# Altium integrated library WE-HCI SMD Flat Wire High Current Inductor.IntLib: 110 symbols (part 1 of 2)
Pins are listed as number, name and electrical type; pins without a type are passive.

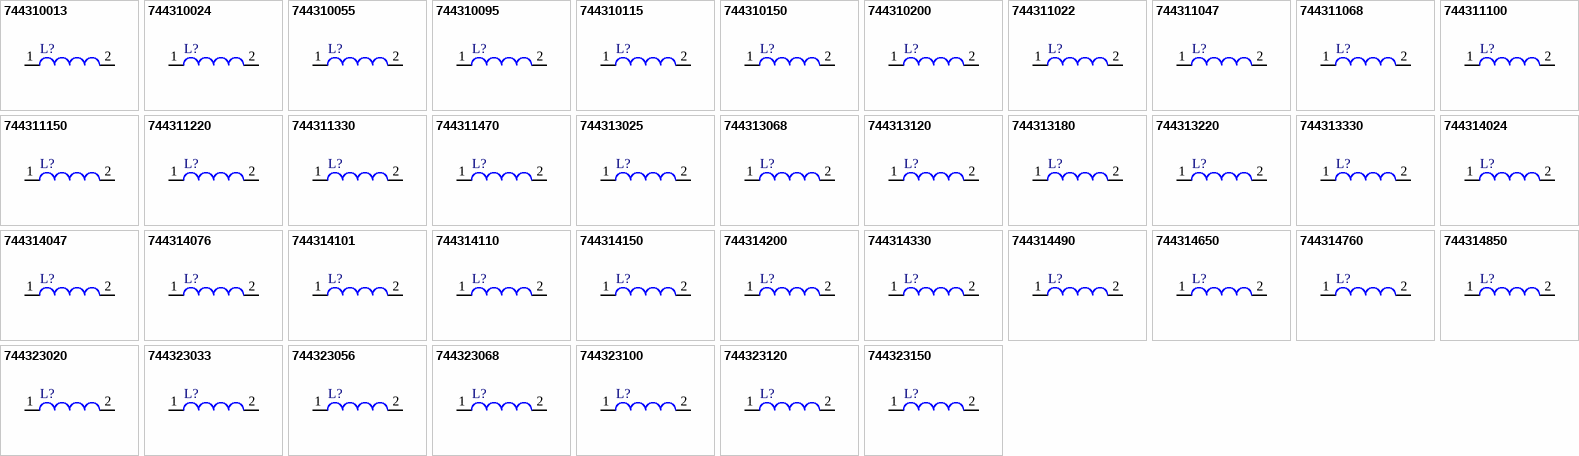
[diagram p0: symbols 744310013 to 744323150]

## 744310013
designator L?
SMD Flat Wire High Current Inductor WE-HCI, L=0.13 µH; PartNumber: 744310013; Inductance: 0.13 µH; DatasheetVersion: ver 4, Jan-2008; PackageReference: WE-HCI-7030; PackageDescription: SMD Inductor, 2-Leads, Body 7.0 x 6.9 mm; ComponentLink1Description: Manufacturer URL; ComponentLink1URL: http://www.we-online.com; ComponentLink2Description: Datasheet; ComponentLink2URL: http://www.we-online.de/katalog/media/pdf/744310013.pdf
footprint WE-HCI-7030 (SMD Inductor, 2-Leads, Body 7.0x6.9x3.3 mm)
pins: 1, 2

## 744310024
designator L?
SMD Flat Wire High Current Inductor WE-HCI, L=0.24 µH; PartNumber: 744310024; Inductance: 0.24 µH; DatasheetVersion: ver 4, Jan-2008; PackageReference: WE-HCI-7030; PackageDescription: SMD Inductor, 2-Leads, Body 7.0 x 6.9 mm; ComponentLink1Description: Manufacturer URL; ComponentLink1URL: http://www.we-online.com; ComponentLink2Description: Datasheet; ComponentLink2URL: http://www.we-online.de/katalog/media/pdf/744310024.pdf
footprint WE-HCI-7030 (SMD Inductor, 2-Leads, Body 7.0x6.9x3.3 mm)
pins: 1, 2

## 744310055
designator L?
SMD Flat Wire High Current Inductor WE-HCI, L=0.52 µH; PartNumber: 744310055; Inductance: 0.52 µH; DatasheetVersion: ver 4, Jan-2008; PackageReference: WE-HCI-7030; PackageDescription: SMD Inductor, 2-Leads, Body 7.0 x 6.9 mm; ComponentLink1Description: Manufacturer URL; ComponentLink1URL: http://www.we-online.com; ComponentLink2Description: Datasheet; ComponentLink2URL: http://www.we-online.de/katalog/media/pdf/744310055.pdf
footprint WE-HCI-7030 (SMD Inductor, 2-Leads, Body 7.0x6.9x3.3 mm)
pins: 1, 2

## 744310095
designator L?
SMD Flat Wire High Current Inductor WE-HCI, L=0.95 µH; PartNumber: 744310095; Inductance: 0.95 µH; DatasheetVersion: ver 4, Jan-2008; PackageReference: WE-HCI-7030; PackageDescription: SMD Inductor, 2-Leads, Body 7.0 x 6.9 mm; ComponentLink1Description: Manufacturer URL; ComponentLink1URL: http://www.we-online.com; ComponentLink2Description: Datasheet; ComponentLink2URL: http://www.we-online.de/katalog/media/pdf/744310095.pdf
footprint WE-HCI-7030 (SMD Inductor, 2-Leads, Body 7.0x6.9x3.3 mm)
pins: 1, 2

## 744310115
designator L?
SMD Flat Wire High Current Inductor WE-HCI, L=1.15 µH; PartNumber: 744310115; Inductance: 1.15 µH; DatasheetVersion: ver 4, Jan-2008; PackageReference: WE-HCI-7030; PackageDescription: SMD Inductor, 2-Leads, Body 7.0 x 6.9 mm; ComponentLink1Description: Manufacturer URL; ComponentLink1URL: http://www.we-online.com; ComponentLink2Description: Datasheet; ComponentLink2URL: http://www.we-online.de/katalog/media/pdf/744310115.pdf
footprint WE-HCI-7030 (SMD Inductor, 2-Leads, Body 7.0x6.9x3.3 mm)
pins: 1, 2

## 744310150
designator L?
SMD Flat Wire High Current Inductor WE-HCI, L=1.50 µH; PartNumber: 744310150; Inductance: 1.50 µH; DatasheetVersion: ver 1, Mar-2010; PackageReference: WE-HCI-7030; PackageDescription: SMD Inductor, 2-Leads, Body 7.0 x 6.9 mm; ComponentLink1Description: Manufacturer URL; ComponentLink1URL: http://www.we-online.com; ComponentLink2Description: Datasheet; ComponentLink2URL: http://www.we-online.de/katalog/media/pdf/744310150.pdf
footprint WE-HCI-7030 (SMD Inductor, 2-Leads, Body 7.0x6.9x3.3 mm)
pins: 1, 2

## 744310200
designator L?
SMD Flat Wire High Current Inductor WE-HCI, L=2.00 µH; PartNumber: 744310200; Inductance: 2.00 µH; DatasheetVersion: ver 4, Jan-2008; PackageReference: WE-HCI-7030; PackageDescription: SMD Inductor, 2-Leads, Body 7.0 x 6.9 mm; ComponentLink1Description: Manufacturer URL; ComponentLink1URL: http://www.we-online.com; ComponentLink2Description: Datasheet; ComponentLink2URL: http://www.we-online.de/katalog/media/pdf/744310200.pdf
footprint WE-HCI-7030 (SMD Inductor, 2-Leads, Body 7.0x6.9x3.3 mm)
pins: 1, 2

## 744311022
designator L?
SMD Flat Wire High Current Inductor WE-HCI, L=0.22 µH; PartNumber: 744311022; Inductance: 0.22 µH; DatasheetVersion: ver 1, Feb-2008; PackageReference: WE-HCI-7040; PackageDescription: SMD Inductor, 2-Leads, Body 7.0 x 6.9 mm; ComponentLink1Description: Manufacturer URL; ComponentLink1URL: http://www.we-online.com; ComponentLink2Description: Datasheet; ComponentLink2URL: http://www.we-online.de/katalog/media/pdf/744311022.pdf
footprint WE-HCI-7040 (SMD Inductor, 2-Leads, Body 7.0x6.9x4.0 mm)
pins: 1, 2

## 744311047
designator L?
SMD Flat Wire High Current Inductor WE-HCI, L=0.40 µH; PartNumber: 744311047; Inductance: 0.40 µH; DatasheetVersion: ver 2, Mar-2010; PackageReference: WE-HCI-7040; PackageDescription: SMD Inductor, 2-Leads, Body 7.0 x 6.9 mm; ComponentLink1Description: Manufacturer URL; ComponentLink1URL: http://www.we-online.com; ComponentLink2Description: Datasheet; ComponentLink2URL: http://www.we-online.de/katalog/media/pdf/744311047.pdf
footprint WE-HCI-7040 (SMD Inductor, 2-Leads, Body 7.0x6.9x4.0 mm)
pins: 1, 2

## 744311068
designator L?
SMD Flat Wire High Current Inductor WE-HCI, L=0.68 µH; PartNumber: 744311068; Inductance: 0.68 µH; DatasheetVersion: ver 3, Jan-2008; PackageReference: WE-HCI-7040; PackageDescription: SMD Inductor, 2-Leads, Body 7.0 x 6.9 mm; ComponentLink1Description: Manufacturer URL; ComponentLink1URL: http://www.we-online.com; ComponentLink2Description: Datasheet; ComponentLink2URL: http://www.we-online.de/katalog/media/pdf/744311068.pdf
footprint WE-HCI-7040 (SMD Inductor, 2-Leads, Body 7.0x6.9x4.0 mm)
pins: 1, 2

## 744311100
designator L?
SMD Flat Wire High Current Inductor WE-HCI, L=1.00 µH; PartNumber: 744311100; Inductance: 1.00 µH; DatasheetVersion: ver 1, Feb-2008; PackageReference: WE-HCI-7040; PackageDescription: SMD Inductor, 2-Leads, Body 7.0 x 6.9 mm; ComponentLink1Description: Manufacturer URL; ComponentLink1URL: http://www.we-online.com; ComponentLink2Description: Datasheet; ComponentLink2URL: http://www.we-online.de/katalog/media/pdf/744311100.pdf
footprint WE-HCI-7040 (SMD Inductor, 2-Leads, Body 7.0x6.9x4.0 mm)
pins: 1, 2

## 744311150
designator L?
SMD Flat Wire High Current Inductor WE-HCI, L=1.50 µH; PartNumber: 744311150; Inductance: 1.50 µH; DatasheetVersion: ver 3, Jan-2008; PackageReference: WE-HCI-7040; PackageDescription: SMD Inductor, 2-Leads, Body 7.0 x 6.9 mm; ComponentLink1Description: Manufacturer URL; ComponentLink1URL: http://www.we-online.com; ComponentLink2Description: Datasheet; ComponentLink2URL: http://www.we-online.de/katalog/media/pdf/744311150.pdf
footprint WE-HCI-7040 (SMD Inductor, 2-Leads, Body 7.0x6.9x4.0 mm)
pins: 1, 2

## 744311220
designator L?
SMD Flat Wire High Current Inductor WE-HCI, L=2.20 µH; PartNumber: 744311220; Inductance: 2.20 µH; DatasheetVersion: ver 3, Jan-2008; PackageReference: WE-HCI-7040; PackageDescription: SMD Inductor, 2-Leads, Body 7.0 x 6.9 mm; ComponentLink1Description: Manufacturer URL; ComponentLink1URL: http://www.we-online.com; ComponentLink2Description: Datasheet; ComponentLink2URL: http://www.we-online.de/katalog/media/pdf/744311220.pdf
footprint WE-HCI-7040 (SMD Inductor, 2-Leads, Body 7.0x6.9x4.0 mm)
pins: 1, 2

## 744311330
designator L?
SMD Flat Wire High Current Inductor WE-HCI, L=3.30 µH; PartNumber: 744311330; Inductance: 3.30 µH; DatasheetVersion: ver 3, Jan-2008; PackageReference: WE-HCI-7040; PackageDescription: SMD Inductor, 2-Leads, Body 7.0 x 6.9 mm; ComponentLink1Description: Manufacturer URL; ComponentLink1URL: http://www.we-online.com; ComponentLink2Description: Datasheet; ComponentLink2URL: http://www.we-online.de/katalog/media/pdf/744311330.pdf
footprint WE-HCI-7040 (SMD Inductor, 2-Leads, Body 7.0x6.9x4.0 mm)
pins: 1, 2

## 744311470
designator L?
SMD Flat Wire High Current Inductor WE-HCI, L=4.70 µH; PartNumber: 744311470; Inductance: 4.70 µH; DatasheetVersion: ver 3, Jan-2008; PackageReference: WE-HCI-7040; PackageDescription: SMD Inductor, 2-Leads, Body 7.0 x 6.9 mm; ComponentLink1Description: Manufacturer URL; ComponentLink1URL: http://www.we-online.com; ComponentLink2Description: Datasheet; ComponentLink2URL: http://www.we-online.de/katalog/media/pdf/744311470.pdf
footprint WE-HCI-7040 (SMD Inductor, 2-Leads, Body 7.0x6.9x4.0 mm)
pins: 1, 2

## 744313025
designator L?
SMD Flat Wire High Current Inductor WE-HCI, L=0.25 µH; PartNumber: 744313025; Inductance: 0.25 µH; DatasheetVersion: ver 3, Jan-2008; PackageReference: WE-HCI-1335; PackageDescription: SMD Inductor, 2-Leads, Body 12.9 x 12.8 mm; ComponentLink1Description: Manufacturer URL; ComponentLink1URL: http://www.we-online.com; ComponentLink2Description: Datasheet; ComponentLink2URL: http://www.we-online.de/katalog/media/pdf/744313025.pdf
footprint WE-HCI-1335 (SMD Inductor, 2-Leads, Body 12.9x12.8x3.5 mm)
pins: 1, 2

## 744313068
designator L?
SMD Flat Wire High Current Inductor WE-HCI, L=0.68 µH; PartNumber: 744313068; Inductance: 0.68 µH; DatasheetVersion: ver 3, Jan-2008; PackageReference: WE-HCI-1335; PackageDescription: SMD Inductor, 2-Leads, Body 12.9 x 12.8 mm; ComponentLink1Description: Manufacturer URL; ComponentLink1URL: http://www.we-online.com; ComponentLink2Description: Datasheet; ComponentLink2URL: http://www.we-online.de/katalog/media/pdf/744313068.pdf
footprint WE-HCI-1335 (SMD Inductor, 2-Leads, Body 12.9x12.8x3.5 mm)
pins: 1, 2

## 744313120
designator L?
SMD Flat Wire High Current Inductor WE-HCI, L=1.20 µH; PartNumber: 744313120; Inductance: 1.20 µH; DatasheetVersion: ver 3, Jan-2008; PackageReference: WE-HCI-1335; PackageDescription: SMD Inductor, 2-Leads, Body 12.9 x 12.8 mm; ComponentLink1Description: Manufacturer URL; ComponentLink1URL: http://www.we-online.com; ComponentLink2Description: Datasheet; ComponentLink2URL: http://www.we-online.de/katalog/media/pdf/744313120.pdf
footprint WE-HCI-1335 (SMD Inductor, 2-Leads, Body 12.9x12.8x3.5 mm)
pins: 1, 2

## 744313180
designator L?
SMD Flat Wire High Current Inductor WE-HCI, L=1.80 µH; PartNumber: 744313180; Inductance: 1.80 µH; DatasheetVersion: ver 3, Jan-2008; PackageReference: WE-HCI-1335; PackageDescription: SMD Inductor, 2-Leads, Body 12.9 x 12.8 mm; ComponentLink1Description: Manufacturer URL; ComponentLink1URL: http://www.we-online.com; ComponentLink2Description: Datasheet; ComponentLink2URL: http://www.we-online.de/katalog/media/pdf/744313180.pdf
footprint WE-HCI-1335 (SMD Inductor, 2-Leads, Body 12.9x12.8x3.5 mm)
pins: 1, 2

## 744313220
designator L?
SMD Flat Wire High Current Inductor WE-HCI, L=2.20 µH; PartNumber: 744313220; Inductance: 2.20 µH; DatasheetVersion: ver 3, Jan-2008; PackageReference: WE-HCI-1335; PackageDescription: SMD Inductor, 2-Leads, Body 12.9 x 12.8 mm; ComponentLink1Description: Manufacturer URL; ComponentLink1URL: http://www.we-online.com; ComponentLink2Description: Datasheet; ComponentLink2URL: http://www.we-online.de/katalog/media/pdf/744313220.pdf
footprint WE-HCI-1335 (SMD Inductor, 2-Leads, Body 12.9x12.8x3.5 mm)
pins: 1, 2

## 744313330
designator L?
SMD Flat Wire High Current Inductor WE-HCI, L=3.30 µH; PartNumber: 744313330; Inductance: 3.30 µH; DatasheetVersion: ver 3, Jan-2008; PackageReference: WE-HCI-1335; PackageDescription: SMD Inductor, 2-Leads, Body 12.9 x 12.8 mm; ComponentLink1Description: Manufacturer URL; ComponentLink1URL: http://www.we-online.com; ComponentLink2Description: Datasheet; ComponentLink2URL: http://www.we-online.de/katalog/media/pdf/744313330.pdf
footprint WE-HCI-1335 (SMD Inductor, 2-Leads, Body 12.9x12.8x3.5 mm)
pins: 1, 2

## 744314024
designator L?
SMD Flat Wire High Current Inductor WE-HCI, L=0.24 µH; PartNumber: 744314024; Inductance: 0.24 µH; DatasheetVersion: ver 2, Jan-2008; PackageReference: WE-HCI-7050; PackageDescription: SMD Inductor, 2-Leads, Body 7.0 x 6.9 mm; ComponentLink1Description: Manufacturer URL; ComponentLink1URL: http://www.we-online.com; ComponentLink2Description: Datasheet; ComponentLink2URL: http://www.we-online.de/katalog/media/pdf/744314024.pdf
footprint WE-HCI-7050 (SMD Inductor, 2-Leads, Body 7.0x6.9x5.0 mm)
pins: 1, 2

## 744314047
designator L?
SMD Flat Wire High Current Inductor WE-HCI, L=0.47 µH; PartNumber: 744314047; Inductance: 0.47 µH; DatasheetVersion: ver 2, Jan-2008; PackageReference: WE-HCI-7050; PackageDescription: SMD Inductor, 2-Leads, Body 7.0 x 6.9 mm; ComponentLink1Description: Manufacturer URL; ComponentLink1URL: http://www.we-online.com; ComponentLink2Description: Datasheet; ComponentLink2URL: http://www.we-online.de/katalog/media/pdf/744314047.pdf
footprint WE-HCI-7050 (SMD Inductor, 2-Leads, Body 7.0x6.9x5.0 mm)
pins: 1, 2

## 744314076
designator L?
SMD Flat Wire High Current Inductor WE-HCI, L=0.76 µH; PartNumber: 744314076; Inductance: 0.76 µH; DatasheetVersion: ver 2, Jan-2008; PackageReference: WE-HCI-7050; PackageDescription: SMD Inductor, 2-Leads, Body 7.0 x 6.9 mm; ComponentLink1Description: Manufacturer URL; ComponentLink1URL: http://www.we-online.com; ComponentLink2Description: Datasheet; ComponentLink2URL: http://www.we-online.de/katalog/media/pdf/744314076.pdf
footprint WE-HCI-7050 (SMD Inductor, 2-Leads, Body 7.0x6.9x5.0 mm)
pins: 1, 2

## 744314101
designator L?
SMD Flat Wire High Current Inductor WE-HCI, L=10.0 µH; PartNumber: 744314101; Inductance: 10.0 µH; DatasheetVersion: ver 1, Aug-2009; PackageReference: WE-HCI-7050; PackageDescription: SMD Inductor, 2-Leads, Body 7.0 x 6.9 mm; ComponentLink1Description: Manufacturer URL; ComponentLink1URL: http://www.we-online.com; ComponentLink2Description: Datasheet; ComponentLink2URL: http://www.we-online.de/katalog/media/pdf/744314101.pdf
footprint WE-HCI-7050 (SMD Inductor, 2-Leads, Body 7.0x6.9x5.0 mm)
pins: 1, 2

## 744314110
designator L?
SMD Flat Wire High Current Inductor WE-HCI, L=1.10 µH; PartNumber: 744314110; Inductance: 1.10 µH; DatasheetVersion: ver 2, Jan-2008; PackageReference: WE-HCI-7050; PackageDescription: SMD Inductor, 2-Leads, Body 7.0 x 6.9 mm; ComponentLink1Description: Manufacturer URL; ComponentLink1URL: http://www.we-online.com; ComponentLink2Description: Datasheet; ComponentLink2URL: http://www.we-online.de/katalog/media/pdf/744314110.pdf
footprint WE-HCI-7050 (SMD Inductor, 2-Leads, Body 7.0x6.9x5.0 mm)
pins: 1, 2

## 744314150
designator L?
SMD Flat Wire High Current Inductor WE-HCI, L=1.50 µH; PartNumber: 744314150; Inductance: 1.50 µH; DatasheetVersion: ver 3, Sep-2008; PackageReference: WE-HCI-7050; PackageDescription: SMD Inductor, 2-Leads, Body 7.0 x 6.9 mm; ComponentLink1Description: Manufacturer URL; ComponentLink1URL: http://www.we-online.com; ComponentLink2Description: Datasheet; ComponentLink2URL: http://www.we-online.de/katalog/media/pdf/744314150.pdf
footprint WE-HCI-7050 (SMD Inductor, 2-Leads, Body 7.0x6.9x5.0 mm)
pins: 1, 2

## 744314200
designator L?
SMD Flat Wire High Current Inductor WE-HCI, L=2.00 µH; PartNumber: 744314200; Inductance: 2.00 µH; DatasheetVersion: ver 2, Jan-2008; PackageReference: WE-HCI-7050; PackageDescription: SMD Inductor, 2-Leads, Body 7.0 x 6.9 mm; ComponentLink1Description: Manufacturer URL; ComponentLink1URL: http://www.we-online.com; ComponentLink2Description: Datasheet; ComponentLink2URL: http://www.we-online.de/katalog/media/pdf/744314200.pdf
footprint WE-HCI-7050 (SMD Inductor, 2-Leads, Body 7.0x6.9x5.0 mm)
pins: 1, 2

## 744314330
designator L?
SMD Flat Wire High Current Inductor WE-HCI, L=3.30 µH; PartNumber: 744314330; Inductance: 3.30 µH; DatasheetVersion: ver 2, Jan-2008; PackageReference: WE-HCI-7050; PackageDescription: SMD Inductor, 2-Leads, Body 7.0 x 6.9 mm; ComponentLink1Description: Manufacturer URL; ComponentLink1URL: http://www.we-online.com; ComponentLink2Description: Datasheet; ComponentLink2URL: http://www.we-online.de/katalog/media/pdf/744314330.pdf
footprint WE-HCI-7050 (SMD Inductor, 2-Leads, Body 7.0x6.9x5.0 mm)
pins: 1, 2

## 744314490
designator L?
SMD Flat Wire High Current Inductor WE-HCI, L=4.90 µH; PartNumber: 744314490; Inductance: 4.90 µH; DatasheetVersion: ver 2, Jan-2008; PackageReference: WE-HCI-7050; PackageDescription: SMD Inductor, 2-Leads, Body 7.0 x 6.9 mm; ComponentLink1Description: Manufacturer URL; ComponentLink1URL: http://www.we-online.com; ComponentLink2Description: Datasheet; ComponentLink2URL: http://www.we-online.de/katalog/media/pdf/744314490.pdf
footprint WE-HCI-7050 (SMD Inductor, 2-Leads, Body 7.0x6.9x5.0 mm)
pins: 1, 2

## 744314650
designator L?
SMD Flat Wire High Current Inductor WE-HCI, L=6.50 µH; PartNumber: 744314650; Inductance: 6.50 µH; DatasheetVersion: ver 2, Jan-2008; PackageReference: WE-HCI-7050; PackageDescription: SMD Inductor, 2-Leads, Body 7.0 x 6.9 mm; ComponentLink1Description: Manufacturer URL; ComponentLink1URL: http://www.we-online.com; ComponentLink2Description: Datasheet; ComponentLink2URL: http://www.we-online.de/katalog/media/pdf/744314650.pdf
footprint WE-HCI-7050 (SMD Inductor, 2-Leads, Body 7.0x6.9x5.0 mm)
pins: 1, 2

## 744314760
designator L?
SMD Flat Wire High Current Inductor WE-HCI, L=7.60 µH; PartNumber: 744314760; Inductance: 7.60 µH; DatasheetVersion: ver 1, Aug-2009; PackageReference: WE-HCI-7050; PackageDescription: SMD Inductor, 2-Leads, Body 7.0 x 6.9 mm; ComponentLink1Description: Manufacturer URL; ComponentLink1URL: http://www.we-online.com; ComponentLink2Description: Datasheet; ComponentLink2URL: http://www.we-online.de/katalog/media/pdf/744314760.pdf
footprint WE-HCI-7050 (SMD Inductor, 2-Leads, Body 7.0x6.9x5.0 mm)
pins: 1, 2

## 744314850
designator L?
SMD Flat Wire High Current Inductor WE-HCI, L=8.50 µH; PartNumber: 744314850; Inductance: 8.50 µH; DatasheetVersion: ver 1, Aug-2009; PackageReference: WE-HCI-7050; PackageDescription: SMD Inductor, 2-Leads, Body 7.0 x 6.9 mm; ComponentLink1Description: Manufacturer URL; ComponentLink1URL: http://www.we-online.com; ComponentLink2Description: Datasheet; ComponentLink2URL: http://www.we-online.de/katalog/media/pdf/744314850.pdf
footprint WE-HCI-7050 (SMD Inductor, 2-Leads, Body 7.0x6.9x5.0 mm)
pins: 1, 2

## 744323020
designator L?
SMD Flat Wire High Current Inductor WE-HCI, L=0.20 µH; PartNumber: 744323020; Inductance: 0.20 µH; DatasheetVersion: ver 1, Aug-2008; PackageReference: WE-HCI-1030; PackageDescription: SMD Inductor, 2-Leads, Body 10.6 x 10.6 mm; ComponentLink1Description: Manufacturer URL; ComponentLink1URL: http://www.we-online.com; ComponentLink2Description: Datasheet; ComponentLink2URL: http://www.we-online.de/katalog/media/pdf/744323020.pdf
footprint WE-HCI-1030 (SMD Inductor, 2-Leads, Body 10.6x10.6x3.1 mm)
pins: 1, 2

## 744323033
designator L?
SMD Flat Wire High Current Inductor WE-HCI, L=0.33 µH; PartNumber: 744323033; Inductance: 0.33 µH; DatasheetVersion: ver 1, Aug-2008; PackageReference: WE-HCI-1030; PackageDescription: SMD Inductor, 2-Leads, Body 10.6 x 10.6 mm; ComponentLink1Description: Manufacturer URL; ComponentLink1URL: http://www.we-online.com; ComponentLink2Description: Datasheet; ComponentLink2URL: http://www.we-online.de/katalog/media/pdf/744323033.pdf
footprint WE-HCI-1030 (SMD Inductor, 2-Leads, Body 10.6x10.6x3.1 mm)
pins: 1, 2

## 744323056
designator L?
SMD Flat Wire High Current Inductor WE-HCI, L=0.56 µH; PartNumber: 744323056; Inductance: 0.56 µH; DatasheetVersion: ver 1, Aug-2008; PackageReference: WE-HCI-1030; PackageDescription: SMD Inductor, 2-Leads, Body 10.6 x 10.6 mm; ComponentLink1Description: Manufacturer URL; ComponentLink1URL: http://www.we-online.com; ComponentLink2Description: Datasheet; ComponentLink2URL: http://www.we-online.de/katalog/media/pdf/744323056.pdf
footprint WE-HCI-1030 (SMD Inductor, 2-Leads, Body 10.6x10.6x3.1 mm)
pins: 1, 2

## 744323068
designator L?
SMD Flat Wire High Current Inductor WE-HCI, L=0.68 µH; PartNumber: 744323068; Inductance: 0.68 µH; DatasheetVersion: ver 1, Aug-2008; PackageReference: WE-HCI-1030; PackageDescription: SMD Inductor, 2-Leads, Body 10.6 x 10.6 mm; ComponentLink1Description: Manufacturer URL; ComponentLink1URL: http://www.we-online.com; ComponentLink2Description: Datasheet; ComponentLink2URL: http://www.we-online.de/katalog/media/pdf/744323068.pdf
footprint WE-HCI-1030 (SMD Inductor, 2-Leads, Body 10.6x10.6x3.1 mm)
pins: 1, 2

## 744323100
designator L?
SMD Flat Wire High Current Inductor WE-HCI, L=1.00 µH; PartNumber: 744323100; Inductance: 1.00 µH; DatasheetVersion: ver 1, Aug-2008; PackageReference: WE-HCI-1030; PackageDescription: SMD Inductor, 2-Leads, Body 10.6 x 10.6 mm; ComponentLink1Description: Manufacturer URL; ComponentLink1URL: http://www.we-online.com; ComponentLink2Description: Datasheet; ComponentLink2URL: http://www.we-online.de/katalog/media/pdf/744323100.pdf
footprint WE-HCI-1030 (SMD Inductor, 2-Leads, Body 10.6x10.6x3.1 mm)
pins: 1, 2

## 744323120
designator L?
SMD Flat Wire High Current Inductor WE-HCI, L=1.20 µH; PartNumber: 744323120; Inductance: 1.20 µH; DatasheetVersion: ver 1, Aug-2008; PackageReference: WE-HCI-1030; PackageDescription: SMD Inductor, 2-Leads, Body 10.6 x 10.6 mm; ComponentLink1Description: Manufacturer URL; ComponentLink1URL: http://www.we-online.com; ComponentLink2Description: Datasheet; ComponentLink2URL: http://www.we-online.de/katalog/media/pdf/744323120.pdf
footprint WE-HCI-1030 (SMD Inductor, 2-Leads, Body 10.6x10.6x3.1 mm)
pins: 1, 2

## 744323150
designator L?
SMD Flat Wire High Current Inductor WE-HCI, L=1.50 µH; PartNumber: 744323150; Inductance: 1.50 µH; DatasheetVersion: ver 1, Aug-2008; PackageReference: WE-HCI-1030; PackageDescription: SMD Inductor, 2-Leads, Body 10.6 x 10.6 mm; ComponentLink1Description: Manufacturer URL; ComponentLink1URL: http://www.we-online.com; ComponentLink2Description: Datasheet; ComponentLink2URL: http://www.we-online.de/katalog/media/pdf/744323150.pdf
footprint WE-HCI-1030 (SMD Inductor, 2-Leads, Body 10.6x10.6x3.1 mm)
pins: 1, 2

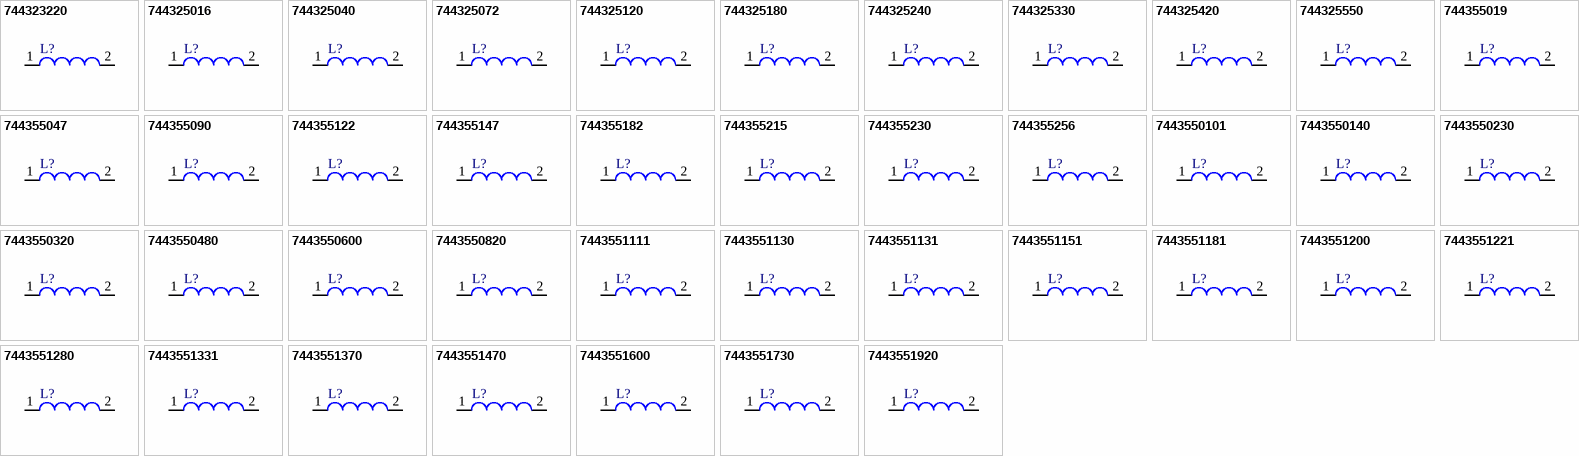
[diagram p1: symbols 744323220 to 7443551920]

## 744323220
designator L?
SMD Flat Wire High Current Inductor WE-HCI, L=2.20 µH; PartNumber: 744323220; Inductance: 2.20 µH; DatasheetVersion: ver 1, Aug-2008; PackageReference: WE-HCI-1030; PackageDescription: SMD Inductor, 2-Leads, Body 10.6 x 10.6 mm; ComponentLink1Description: Manufacturer URL; ComponentLink1URL: http://www.we-online.com; ComponentLink2Description: Datasheet; ComponentLink2URL: http://www.we-online.de/katalog/media/pdf/744323220.pdf
footprint WE-HCI-1030 (SMD Inductor, 2-Leads, Body 10.6x10.6x3.1 mm)
pins: 1, 2

## 744325016
designator L?
SMD Flat Wire High Current Inductor WE-HCI, L=0.16 µH; PartNumber: 744325016; Inductance: 0.16 µH; DatasheetVersion: ver 2, Jan-2008; PackageReference: WE-HCI-1050; PackageDescription: SMD Inductor, 2-Leads, Body 10.5 x 10.2 mm; ComponentLink1Description: Manufacturer URL; ComponentLink1URL: http://www.we-online.com; ComponentLink2Description: Datasheet; ComponentLink2URL: http://www.we-online.de/katalog/media/pdf/744325016.pdf
footprint WE-HCI-1050 (SMD Inductor, 2-Leads, Body 10.5x10.2x5.0 mm)
pins: 1, 2

## 744325040
designator L?
SMD Flat Wire High Current Inductor WE-HCI, L=0.40 µH; PartNumber: 744325040; Inductance: 0.40 µH; DatasheetVersion: ver 2, Jan-2008; PackageReference: WE-HCI-1050; PackageDescription: SMD Inductor, 2-Leads, Body 10.5 x 10.2 mm; ComponentLink1Description: Manufacturer URL; ComponentLink1URL: http://www.we-online.com; ComponentLink2Description: Datasheet; ComponentLink2URL: http://www.we-online.de/katalog/media/pdf/744325040.pdf
footprint WE-HCI-1050 (SMD Inductor, 2-Leads, Body 10.5x10.2x5.0 mm)
pins: 1, 2

## 744325072
designator L?
SMD Flat Wire High Current Inductor WE-HCI, L=0.72 µH; PartNumber: 744325072; Inductance: 0.72 µH; DatasheetVersion: ver 2, Jan-2008; PackageReference: WE-HCI-1050; PackageDescription: SMD Inductor, 2-Leads, Body 10.5 x 10.2 mm; ComponentLink1Description: Manufacturer URL; ComponentLink1URL: http://www.we-online.com; ComponentLink2Description: Datasheet; ComponentLink2URL: http://www.we-online.de/katalog/media/pdf/744325072.pdf
footprint WE-HCI-1050 (SMD Inductor, 2-Leads, Body 10.5x10.2x5.0 mm)
pins: 1, 2

## 744325120
designator L?
SMD Flat Wire High Current Inductor WE-HCI, L=1.20 µH; PartNumber: 744325120; Inductance: 1.20 µH; DatasheetVersion: ver 2, Jan-2008; PackageReference: WE-HCI-1050; PackageDescription: SMD Inductor, 2-Leads, Body 10.5 x 10.2 mm; ComponentLink1Description: Manufacturer URL; ComponentLink1URL: http://www.we-online.com; ComponentLink2Description: Datasheet; ComponentLink2URL: http://www.we-online.de/katalog/media/pdf/744325120.pdf
footprint WE-HCI-1050 (SMD Inductor, 2-Leads, Body 10.5x10.2x5.0 mm)
pins: 1, 2

## 744325180
designator L?
SMD Flat Wire High Current Inductor WE-HCI, L=1.80 µH; PartNumber: 744325180; Inductance: 1.80 µH; DatasheetVersion: ver 2, Jan-2008; PackageReference: WE-HCI-1050; PackageDescription: SMD Inductor, 2-Leads, Body 10.5 x 10.2 mm; ComponentLink1Description: Manufacturer URL; ComponentLink1URL: http://www.we-online.com; ComponentLink2Description: Datasheet; ComponentLink2URL: http://www.we-online.de/katalog/media/pdf/744325180.pdf
footprint WE-HCI-1050 (SMD Inductor, 2-Leads, Body 10.5x10.2x5.0 mm)
pins: 1, 2

## 744325240
designator L?
SMD Flat Wire High Current Inductor WE-HCI, L=2.40 µH; PartNumber: 744325240; Inductance: 2.40 µH; DatasheetVersion: ver 2, Jan-2008; PackageReference: WE-HCI-1050; PackageDescription: SMD Inductor, 2-Leads, Body 10.5 x 10.2 mm; ComponentLink1Description: Manufacturer URL; ComponentLink1URL: http://www.we-online.com; ComponentLink2Description: Datasheet; ComponentLink2URL: http://www.we-online.de/katalog/media/pdf/744325240.pdf
footprint WE-HCI-1050 (SMD Inductor, 2-Leads, Body 10.5x10.2x5.0 mm)
pins: 1, 2

## 744325330
designator L?
SMD Flat Wire High Current Inductor WE-HCI, L=3.30 µH; PartNumber: 744325330; Inductance: 3.30 µH; DatasheetVersion: ver 2, Jan-2008; PackageReference: WE-HCI-1050; PackageDescription: SMD Inductor, 2-Leads, Body 10.5 x 10.2 mm; ComponentLink1Description: Manufacturer URL; ComponentLink1URL: http://www.we-online.com; ComponentLink2Description: Datasheet; ComponentLink2URL: http://www.we-online.de/katalog/media/pdf/744325330.pdf
footprint WE-HCI-1050 (SMD Inductor, 2-Leads, Body 10.5x10.2x5.0 mm)
pins: 1, 2

## 744325420
designator L?
SMD Flat Wire High Current Inductor WE-HCI, L=4.20 µH; PartNumber: 744325420; Inductance: 4.20 µH; DatasheetVersion: ver 2, Jan-2008; PackageReference: WE-HCI-1050; PackageDescription: SMD Inductor, 2-Leads, Body 10.5 x 10.2 mm; ComponentLink1Description: Manufacturer URL; ComponentLink1URL: http://www.we-online.com; ComponentLink2Description: Datasheet; ComponentLink2URL: http://www.we-online.de/katalog/media/pdf/744325420.pdf
footprint WE-HCI-1050 (SMD Inductor, 2-Leads, Body 10.5x10.2x5.0 mm)
pins: 1, 2

## 744325550
designator L?
SMD Flat Wire High Current Inductor WE-HCI, L=5.50 µH; PartNumber: 744325550; Inductance: 5.50 µH; DatasheetVersion: ver 2, Jan-2008; PackageReference: WE-HCI-1050; PackageDescription: SMD Inductor, 2-Leads, Body 10.5 x 10.2 mm; ComponentLink1Description: Manufacturer URL; ComponentLink1URL: http://www.we-online.com; ComponentLink2Description: Datasheet; ComponentLink2URL: http://www.we-online.de/katalog/media/pdf/744325550.pdf
footprint WE-HCI-1050 (SMD Inductor, 2-Leads, Body 10.5x10.2x5.0 mm)
pins: 1, 2

## 744355019
designator L?
SMD Flat Wire High Current Inductor WE-HCI, L=0.19 µH; PartNumber: 744355019; Inductance: 0.19 µH; DatasheetVersion: ver 5, Jan-2008; PackageReference: WE-HCI-1350; PackageDescription: Inductor, 2-Leads, Body 13.0 x 12.8 mm; ComponentLink1Description: Manufacturer URL; ComponentLink1URL: http://www.we-online.com; ComponentLink2Description: Datasheet; ComponentLink2URL: http://www.we-online.de/katalog/media/pdf/744355019.pdf
footprint WE-HCI-1350 (Inductor, 2-Leads, Body 13.0x12.8x5.0 mm)
pins: 1, 2

## 744355047
designator L?
SMD Flat Wire High Current Inductor WE-HCI, L=0.47 µH; PartNumber: 744355047; Inductance: 0.47 µH; DatasheetVersion: ver 5, Jan-2008; PackageReference: WE-HCI-1350; PackageDescription: Inductor, 2-Leads, Body 13.0 x 12.8 mm; ComponentLink1Description: Manufacturer URL; ComponentLink1URL: http://www.we-online.com; ComponentLink2Description: Datasheet; ComponentLink2URL: http://www.we-online.de/katalog/media/pdf/744355047.pdf
footprint WE-HCI-1350 (Inductor, 2-Leads, Body 13.0x12.8x5.0 mm)
pins: 1, 2

## 744355090
designator L?
SMD Flat Wire High Current Inductor WE-HCI, L=0.90 µH; PartNumber: 744355090; Inductance: 0.90 µH; DatasheetVersion: ver 5, Jan-2008; PackageReference: WE-HCI-1350; PackageDescription: Inductor, 2-Leads, Body 13.0 x 12.8 mm; ComponentLink1Description: Manufacturer URL; ComponentLink1URL: http://www.we-online.com; ComponentLink2Description: Datasheet; ComponentLink2URL: http://www.we-online.de/katalog/media/pdf/744355090.pdf
footprint WE-HCI-1350 (Inductor, 2-Leads, Body 13.0x12.8x5.0 mm)
pins: 1, 2

## 744355122
designator L?
SMD Flat Wire High Current Inductor WE-HCI, L=0.20 µH; PartNumber: 744355122; Inductance: 0.20 µH; DatasheetVersion: ver 5, Jan-2008; PackageReference: WE-HCI-1365; PackageDescription: Inductor, 2-Leads, Body 13.2 x 12.8 mm; ComponentLink1Description: Manufacturer URL; ComponentLink1URL: http://www.we-online.com; ComponentLink2Description: Datasheet; ComponentLink2URL: http://www.we-online.de/katalog/media/pdf/744355122.pdf
footprint WE-HCI-1365 (Inductor, 2-Leads, Body 13.2x12.8x6.5 mm)
pins: 1, 2

## 744355147
designator L?
SMD Flat Wire High Current Inductor WE-HCI, L=0.47 µH; PartNumber: 744355147; Inductance: 0.47 µH; DatasheetVersion: ver 5, Jan-2008; PackageReference: WE-HCI-1365; PackageDescription: Inductor, 2-Leads, Body 13.2 x 12.8 mm; ComponentLink1Description: Manufacturer URL; ComponentLink1URL: http://www.we-online.com; ComponentLink2Description: Datasheet; ComponentLink2URL: http://www.we-online.de/katalog/media/pdf/744355147.pdf
footprint WE-HCI-1365 (Inductor, 2-Leads, Body 13.2x12.8x6.5 mm)
pins: 1, 2

## 744355182
designator L?
SMD Flat Wire High Current Inductor WE-HCI, L=0.82 µH; PartNumber: 744355182; Inductance: 0.82 µH; DatasheetVersion: ver 4, Jan-2008; PackageReference: WE-HCI-1365; PackageDescription: Inductor, 2-Leads, Body 13.2 x 12.8 mm; ComponentLink1Description: Manufacturer URL; ComponentLink1URL: http://www.we-online.com; ComponentLink2Description: Datasheet; ComponentLink2URL: http://www.we-online.de/katalog/media/pdf/744355182.pdf
footprint WE-HCI-1365 (Inductor, 2-Leads, Body 13.2x12.8x6.5 mm)
pins: 1, 2

## 744355215
designator L?
SMD Flat Wire High Current Inductor WE-HCI, L=0.15 µH; PartNumber: 744355215; Inductance: 0.15 µH; DatasheetVersion: ver 7, Jan-2008; PackageReference: WE-HCI-1040; PackageDescription: Inductor, 2-Leads, Body 10.5 x 10.2 mm; ComponentLink1Description: Manufacturer URL; ComponentLink1URL: http://www.we-online.com; ComponentLink2Description: Datasheet; ComponentLink2URL: http://www.we-online.de/katalog/media/pdf/744355215.pdf
footprint WE-HCI-1040 (Inductor, 2-Leads, Body 10.5x10.2x4.2 mm)
pins: 1, 2

## 744355230
designator L?
SMD Flat Wire High Current Inductor WE-HCI, L=0.30 µH; PartNumber: 744355230; Inductance: 0.30 µH; DatasheetVersion: ver 7, Jan-2008; PackageReference: WE-HCI-1040; PackageDescription: Inductor, 2-Leads, Body 10.5 x 10.2 mm; ComponentLink1Description: Manufacturer URL; ComponentLink1URL: http://www.we-online.com; ComponentLink2Description: Datasheet; ComponentLink2URL: http://www.we-online.de/katalog/media/pdf/744355230.pdf
footprint WE-HCI-1040 (Inductor, 2-Leads, Body 10.5x10.2x4.2 mm)
pins: 1, 2

## 744355256
designator L?
SMD Flat Wire High Current Inductor WE-HCI, L=0.56 µH; PartNumber: 744355256; Inductance: 0.56 µH; DatasheetVersion: ver 7, Jan-2008; PackageReference: WE-HCI-1040; PackageDescription: Inductor, 2-Leads, Body 10.5 x 10.2 mm; ComponentLink1Description: Manufacturer URL; ComponentLink1URL: http://www.we-online.com; ComponentLink2Description: Datasheet; ComponentLink2URL: http://www.we-online.de/katalog/media/pdf/744355256.pdf
footprint WE-HCI-1040 (Inductor, 2-Leads, Body 10.5x10.2x4.2 mm)
pins: 1, 2

## 7443550101
designator L?
SMD Flat Wire High Current Inductor WE-HCI, L=10.0 µH; PartNumber: 7443550101; Inductance: 10.0 µH; DatasheetVersion: ver 1, Aug-2009; PackageReference: WE-HCI-1350; PackageDescription: Inductor, 2-Leads, Body 13.0 x 12.8 mm; ComponentLink1Description: Manufacturer URL; ComponentLink1URL: http://www.we-online.com; ComponentLink2Description: Datasheet; ComponentLink2URL: http://www.we-online.de/katalog/media/pdf/7443550101.pdf
footprint WE-HCI-1350 (Inductor, 2-Leads, Body 13.0x12.8x5.0 mm)
pins: 1, 2

## 7443550140
designator L?
SMD Flat Wire High Current Inductor WE-HCI, L=1.40 µH; PartNumber: 7443550140; Inductance: 1.40 µH; DatasheetVersion: ver 5, Jan-2008; PackageReference: WE-HCI-1350; PackageDescription: Inductor, 2-Leads, Body 13.0 x 12.8 mm; ComponentLink1Description: Manufacturer URL; ComponentLink1URL: http://www.we-online.com; ComponentLink2Description: Datasheet; ComponentLink2URL: http://www.we-online.de/katalog/media/pdf/7443550140.pdf
footprint WE-HCI-1350 (Inductor, 2-Leads, Body 13.0x12.8x5.0 mm)
pins: 1, 2

## 7443550230
designator L?
SMD Flat Wire High Current Inductor WE-HCI, L=2.30 µH; PartNumber: 7443550230; Inductance: 2.30 µH; DatasheetVersion: ver 5, Jan-2008; PackageReference: WE-HCI-1350; PackageDescription: Inductor, 2-Leads, Body 13.0 x 12.8 mm; ComponentLink1Description: Manufacturer URL; ComponentLink1URL: http://www.we-online.com; ComponentLink2Description: Datasheet; ComponentLink2URL: http://www.we-online.de/katalog/media/pdf/7443550230.pdf
footprint WE-HCI-1350 (Inductor, 2-Leads, Body 13.0x12.8x5.0 mm)
pins: 1, 2

## 7443550320
designator L?
SMD Flat Wire High Current Inductor WE-HCI, L=3.20 µH; PartNumber: 7443550320; Inductance: 3.20 µH; DatasheetVersion: ver 5, Jan-2008; PackageReference: WE-HCI-1350; PackageDescription: Inductor, 2-Leads, Body 13.0 x 12.8 mm; ComponentLink1Description: Manufacturer URL; ComponentLink1URL: http://www.we-online.com; ComponentLink2Description: Datasheet; ComponentLink2URL: http://www.we-online.de/katalog/media/pdf/7443550320.pdf
footprint WE-HCI-1350 (Inductor, 2-Leads, Body 13.0x12.8x5.0 mm)
pins: 1, 2

## 7443550480
designator L?
SMD Flat Wire High Current Inductor WE-HCI, L=4.80 µH; PartNumber: 7443550480; Inductance: 4.80 µH; DatasheetVersion: ver 5, Jan-2008; PackageReference: WE-HCI-1350; PackageDescription: Inductor, 2-Leads, Body 13.0 x 12.8 mm; ComponentLink1Description: Manufacturer URL; ComponentLink1URL: http://www.we-online.com; ComponentLink2Description: Datasheet; ComponentLink2URL: http://www.we-online.de/katalog/media/pdf/7443550480.pdf
footprint WE-HCI-1350 (Inductor, 2-Leads, Body 13.0x12.8x5.0 mm)
pins: 1, 2

## 7443550600
designator L?
SMD Flat Wire High Current Inductor WE-HCI, L=6.00 µH; PartNumber: 7443550600; Inductance: 6.00 µH; DatasheetVersion: ver 5, Jan-2008; PackageReference: WE-HCI-1350; PackageDescription: Inductor, 2-Leads, Body 13.0 x 12.8 mm; ComponentLink1Description: Manufacturer URL; ComponentLink1URL: http://www.we-online.com; ComponentLink2Description: Datasheet; ComponentLink2URL: http://www.we-online.de/katalog/media/pdf/7443550600.pdf
footprint WE-HCI-1350 (Inductor, 2-Leads, Body 13.0x12.8x5.0 mm)
pins: 1, 2

## 7443550820
designator L?
SMD Flat Wire High Current Inductor WE-HCI, L=8.20 µH; PartNumber: 7443550820; Inductance: 8.20 µH; DatasheetVersion: ver 1, Aug-2009; PackageReference: WE-HCI-1350; PackageDescription: Inductor, 2-Leads, Body 13.0 x 12.8 mm; ComponentLink1Description: Manufacturer URL; ComponentLink1URL: http://www.we-online.com; ComponentLink2Description: Datasheet; ComponentLink2URL: http://www.we-online.de/katalog/media/pdf/7443550820.pdf
footprint WE-HCI-1350 (Inductor, 2-Leads, Body 13.0x12.8x5.0 mm)
pins: 1, 2

## 7443551111
designator L?
SMD Flat Wire High Current Inductor WE-HCI, L=11.30 µH; PartNumber: 7443551111; DatasheetVersion: ver 5, Dec-2009; PackageReference: WE-HCI-1365; PackageDescription: Inductor, 2-Leads, Body 13.2 x 12.8 mm; Inductance: 11.30 µH; ComponentLink1Description: Manufacturer URL; ComponentLink1URL: http://www.we-online.com; ComponentLink2Description: Datasheet; ComponentLink2URL: http://www.we-online.de/katalog/media/pdf/7443551111.pdf
footprint WE-HCI-1365 (Inductor, 2-Leads, Body 13.2x12.8x6.5 mm)
pins: 1, 2

## 7443551130
designator L?
SMD Flat Wire High Current Inductor WE-HCI, L=1.30 µH; PartNumber: 7443551130; Inductance: 1.30 µH; DatasheetVersion: ver 5, Dec-2009; PackageReference: WE-HCI-1365; PackageDescription: Inductor, 2-Leads, Body 13.2 x 12.8 mm; ComponentLink1Description: Manufacturer URL; ComponentLink1URL: http://www.we-online.com; ComponentLink2Description: Datasheet; ComponentLink2URL: http://www.we-online.de/katalog/media/pdf/7443551130.pdf
footprint WE-HCI-1365 (Inductor, 2-Leads, Body 13.2x12.8x6.5 mm)
pins: 1, 2

## 7443551131
designator L?
SMD Flat Wire High Current Inductor WE-HCI, L=13.0 µH; PartNumber: 7443551131; Inductance: 13.0 µH; DatasheetVersion: ver 5, Dec-2009; PackageReference: WE-HCI-1365; PackageDescription: Inductor, 2-Leads, Body 13.2 x 12.8 mm; ComponentLink1Description: Manufacturer URL; ComponentLink1URL: http://www.we-online.com; ComponentLink2Description: Datasheet; ComponentLink2URL: http://www.we-online.de/katalog/media/pdf/7443551131.pdf
footprint WE-HCI-1365 (Inductor, 2-Leads, Body 13.2x12.8x6.5 mm)
pins: 1, 2

## 7443551151
designator L?
SMD Flat Wire High Current Inductor WE-HCI, L=15.4 µH; PartNumber: 7443551151; Inductance: 15.4 µH; DatasheetVersion: ver 4, Jan-2008; PackageReference: WE-HCI-1365; PackageDescription: Inductor, 2-Leads, Body 13.2 x 12.8 mm; ComponentLink1Description: Manufacturer URL; ComponentLink1URL: http://www.we-online.com; ComponentLink2Description: Datasheet; ComponentLink2URL: http://www.we-online.de/katalog/media/pdf/7443551151.pdf
footprint WE-HCI-1365 (Inductor, 2-Leads, Body 13.2x12.8x6.5 mm)
pins: 1, 2

## 7443551181
designator L?
SMD Flat Wire High Current Inductor WE-HCI, L=18.0 µH; PartNumber: 7443551181; Inductance: 18.0 µH; PackageReference: WE-HCI-1365; PackageDescription: Inductor, 2-Leads, Body 13.2 x 12.8 mm; ComponentLink1Description: Manufacturer URL; ComponentLink1URL: http://www.we-online.com; ComponentLink2Description: Datasheet; ComponentLink2URL: http://katalog.we-online.de/kataloge/eisos/media/pdf/7443551181.pdf
footprint WE-HCI-1365 (Inductor, 2-Leads, Body 13.2x12.8x6.5 mm)
pins: 1, 2

## 7443551200
designator L?
SMD Flat Wire High Current Inductor WE-HCI, L=2.00 µH; PartNumber: 7443551200; Inductance: 2.00 µH; DatasheetVersion: ver 4, Jan-2008; PackageReference: WE-HCI-1365; PackageDescription: Inductor, 2-Leads, Body 13.2 x 12.8 mm; ComponentLink1Description: Manufacturer URL; ComponentLink1URL: http://www.we-online.com; ComponentLink2Description: Datasheet; ComponentLink2URL: http://www.we-online.de/katalog/media/pdf/7443551200.pdf
footprint WE-HCI-1365 (Inductor, 2-Leads, Body 13.2x12.8x6.5 mm)
pins: 1, 2

## 7443551221
designator L?
SMD Flat Wire High Current Inductor WE-HCI, L=22.0 µH; PartNumber: 7443551221; Inductance: 22.0 µH; DatasheetVersion: ver 1, Aug-2009; PackageReference: WE-HCI-1365; PackageDescription: Inductor, 2-Leads, Body 13.2 x 12.8 mm; ComponentLink1Description: Manufacturer URL; ComponentLink1URL: http://www.we-online.com; ComponentLink2Description: Datasheet; ComponentLink2URL: http://www.we-online.de/katalog/media/pdf/7443551221.pdf
footprint WE-HCI-1365 (Inductor, 2-Leads, Body 13.2x12.8x6.5 mm)
pins: 1, 2

## 7443551280
designator L?
SMD Flat Wire High Current Inductor WE-HCI, L=2.80 µH; PartNumber: 7443551280; Inductance: 2.80 µH; DatasheetVersion: ver 4, Jan-2008; PackageReference: WE-HCI-1365; PackageDescription: Inductor, 2-Leads, Body 13.2 x 12.8 mm; ComponentLink1Description: Manufacturer URL; ComponentLink1URL: http://www.we-online.com; ComponentLink2Description: Datasheet; ComponentLink2URL: http://www.we-online.de/katalog/media/pdf/7443551280.pdf
footprint WE-HCI-1365 (Inductor, 2-Leads, Body 13.2x12.8x6.5 mm)
pins: 1, 2

## 7443551331
designator L?
SMD Flat Wire High Current Inductor WE-HCI, L=33.0 µH; PartNumber: 7443551331; Inductance: 33.0 µH; PackageReference: WE-HCI-1365; PackageDescription: Inductor, 2-Leads, Body 13.2 x 12.8 mm; ComponentLink1Description: Manufacturer URL; ComponentLink1URL: http://www.we-online.com; ComponentLink2Description: Datasheet; ComponentLink2URL: http://katalog.we-online.de/kataloge/eisos/media/pdf/7443551331.pdf
footprint WE-HCI-1365 (Inductor, 2-Leads, Body 13.2x12.8x6.5 mm)
pins: 1, 2

## 7443551370
designator L?
SMD Flat Wire High Current Inductor WE-HCI, L=3.70 µH; PartNumber: 7443551370; Inductance: 3.70 µH; DatasheetVersion: ver 4, Jan-2008; PackageReference: WE-HCI-1365; PackageDescription: Inductor, 2-Leads, Body 13.2 x 12.8 mm; ComponentLink1Description: Manufacturer URL; ComponentLink1URL: http://www.we-online.com; ComponentLink2Description: Datasheet; ComponentLink2URL: http://www.we-online.de/katalog/media/pdf/7443551370.pdf
footprint WE-HCI-1365 (Inductor, 2-Leads, Body 13.2x12.8x6.5 mm)
pins: 1, 2

## 7443551470
designator L?
SMD Flat Wire High Current Inductor WE-HCI, L=4.70 µH; PartNumber: 7443551470; Inductance: 4.70 µH; DatasheetVersion: ver 4, Jan-2008; PackageReference: WE-HCI-1365; PackageDescription: Inductor, 2-Leads, Body 13.2 x 12.8 mm; ComponentLink1Description: Manufacturer URL; ComponentLink1URL: http://www.we-online.com; ComponentLink2Description: Datasheet; ComponentLink2URL: http://www.we-online.de/katalog/media/pdf/7443551470.pdf
footprint WE-HCI-1365 (Inductor, 2-Leads, Body 13.2x12.8x6.5 mm)
pins: 1, 2

## 7443551600
designator L?
SMD Flat Wire High Current Inductor WE-HCI, L=6.00 µH; PartNumber: 7443551600; Inductance: 6.00 µH; DatasheetVersion: ver 4, Jan-2008; PackageReference: WE-HCI-1365; PackageDescription: Inductor, 2-Leads, Body 13.2 x 12.8 mm; ComponentLink1Description: Manufacturer URL; ComponentLink1URL: http://www.we-online.com; ComponentLink2Description: Datasheet; ComponentLink2URL: http://www.we-online.de/katalog/media/pdf/7443551600.pdf
footprint WE-HCI-1365 (Inductor, 2-Leads, Body 13.2x12.8x6.5 mm)
pins: 1, 2

## 7443551730
designator L?
SMD Flat Wire High Current Inductor WE-HCI, L=7.30 µH; PartNumber: 7443551730; Inductance: 7.30 µH; DatasheetVersion: ver 4, Jan-2008; PackageReference: WE-HCI-1365; PackageDescription: Inductor, 2-Leads, Body 13.2 x 12.8 mm; ComponentLink1Description: Manufacturer URL; ComponentLink1URL: http://www.we-online.com; ComponentLink2Description: Datasheet; ComponentLink2URL: http://www.we-online.de/katalog/media/pdf/7443551730.pdf
footprint WE-HCI-1365 (Inductor, 2-Leads, Body 13.2x12.8x6.5 mm)
pins: 1, 2

## 7443551920
designator L?
SMD Flat Wire High Current Inductor WE-HCI, L=9.20 µH; PartNumber: 7443551920; Inductance: 9.20 µH; DatasheetVersion: ver 4, Jan-2008; PackageReference: WE-HCI-1365; PackageDescription: Inductor, 2-Leads, Body 13.2 x 12.8 mm; ComponentLink1Description: Manufacturer URL; ComponentLink1URL: http://www.we-online.com; ComponentLink2Description: Datasheet; ComponentLink2URL: http://www.we-online.de/katalog/media/pdf/7443551920.pdf
footprint WE-HCI-1365 (Inductor, 2-Leads, Body 13.2x12.8x6.5 mm)
pins: 1, 2

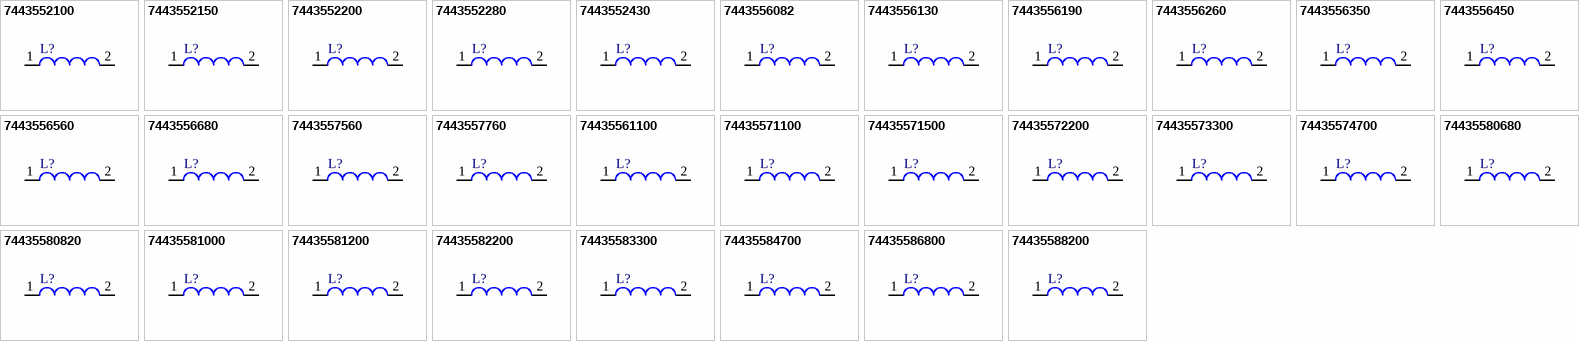
[diagram p2: symbols 7443552100 to 74435588200]

## 7443552100
designator L?
SMD Flat Wire High Current Inductor WE-HCI, L=1.00 µH; PartNumber: 7443552100; Inductance: 1.00 µH; DatasheetVersion: ver 7, Jan-2008; PackageReference: WE-HCI-1040; PackageDescription: Inductor, 2-Leads, Body 10.5 x 10.2 mm; ComponentLink1Description: Manufacturer URL; ComponentLink1URL: http://www.we-online.com; ComponentLink2Description: Datasheet; ComponentLink2URL: http://www.we-online.de/katalog/media/pdf/7443552100.pdf
footprint WE-HCI-1040 (Inductor, 2-Leads, Body 10.5x10.2x4.2 mm)
pins: 1, 2

## 7443552150
designator L?
SMD Flat Wire High Current Inductor WE-HCI, L=1.50 µH; PartNumber: 7443552150; Inductance: 1.50 µH; DatasheetVersion: ver 7, Jan-2008; PackageReference: WE-HCI-1040; PackageDescription: Inductor, 2-Leads, Body 10.5 x 10.2 mm; ComponentLink1Description: Manufacturer URL; ComponentLink1URL: http://www.we-online.com; ComponentLink2Description: Datasheet; ComponentLink2URL: http://www.we-online.de/katalog/media/pdf/7443552150.pdf
footprint WE-HCI-1040 (Inductor, 2-Leads, Body 10.5x10.2x4.2 mm)
pins: 1, 2

## 7443552200
designator L?
SMD Flat Wire High Current Inductor WE-HCI, L=2.00 µH; PartNumber: 7443552200; Inductance: 2.00 µH; DatasheetVersion: ver 7, Jan-2008; PackageReference: WE-HCI-1040; PackageDescription: Inductor, 2-Leads, Body 10.5 x 10.2 mm; ComponentLink1Description: Manufacturer URL; ComponentLink1URL: http://www.we-online.com; ComponentLink2Description: Datasheet; ComponentLink2URL: http://www.we-online.de/katalog/media/pdf/7443552200.pdf
footprint WE-HCI-1040 (Inductor, 2-Leads, Body 10.5x10.2x4.2 mm)
pins: 1, 2

## 7443552280
designator L?
SMD Flat Wire High Current Inductor WE-HCI, L=2.80 µH; PartNumber: 7443552280; Inductance: 2.80 µH; DatasheetVersion: ver 7, Jan-2008; PackageReference: WE-HCI-1040; PackageDescription: Inductor, 2-Leads, Body 10.5 x 10.2 mm; ComponentLink1Description: Manufacturer URL; ComponentLink1URL: http://www.we-online.com; ComponentLink2Description: Datasheet; ComponentLink2URL: http://www.we-online.de/katalog/media/pdf/7443552280.pdf
footprint WE-HCI-1040 (Inductor, 2-Leads, Body 10.5x10.2x4.2 mm)
pins: 1, 2

## 7443552430
designator L?
SMD Flat Wire High Current Inductor WE-HCI, L=4.30 µH; PartNumber: 7443552430; Inductance: 4.30 µH; DatasheetVersion: ver 7, Jan-2008; PackageReference: WE-HCI-1040; PackageDescription: Inductor, 2-Leads, Body 10.5 x 10.2 mm; ComponentLink1Description: Manufacturer URL; ComponentLink1URL: http://www.we-online.com; ComponentLink2Description: Datasheet; ComponentLink2URL: http://www.we-online.de/katalog/media/pdf/7443552430.pdf
footprint WE-HCI-1040 (Inductor, 2-Leads, Body 10.5x10.2x4.2 mm)
pins: 1, 2

## 7443556082
designator L?
SMD Flat Wire High Current Inductor WE-HCI, L=0.82 µH; PartNumber: 7443556082; Inductance: 0.82 µH; DatasheetVersion: ver 3, Nov-2009; PackageReference: WE-HCI-1890; PackageDescription: Inductor, 2-Leads, Body 18.3 x 18.2 mm; ComponentLink1Description: Manufacturer URL; ComponentLink1URL: http://www.we-online.com; ComponentLink2Description: Datasheet; ComponentLink2URL: http://www.we-online.de/katalog/media/pdf/7443556082.pdf
footprint WE-HCI-1890 (Inductor, 2-Leads, Body 18.3x18.2x9.2 mm)
pins: 1, 2

## 7443556130
designator L?
SMD Flat Wire High Current Inductor WE-HCI, L=1.30 µH; PartNumber: 7443556130; Inductance: 1.30 µH; DatasheetVersion: ver 3, Nov-2009; PackageReference: WE-HCI-1890; PackageDescription: Inductor, 2-Leads, Body 18.3 x 18.2 mm; ComponentLink1Description: Manufacturer URL; ComponentLink1URL: http://www.we-online.com; ComponentLink2Description: Datasheet; ComponentLink2URL: http://www.we-online.de/katalog/media/pdf/7443556130.pdf
footprint WE-HCI-1890 (Inductor, 2-Leads, Body 18.3x18.2x9.2 mm)
pins: 1, 2

## 7443556190
designator L?
SMD Flat Wire High Current Inductor WE-HCI, L=1.90 µH; PartNumber: 7443556190; Inductance: 1.90 µH; DatasheetVersion: ver 3, Nov-2009; PackageReference: WE-HCI-1890; PackageDescription: Inductor, 2-Leads, Body 18.3 x 18.2 mm; ComponentLink1Description: Manufacturer URL; ComponentLink1URL: http://www.we-online.com; ComponentLink2Description: Datasheet; ComponentLink2URL: http://www.we-online.de/katalog/media/pdf/7443556190.pdf
footprint WE-HCI-1890 (Inductor, 2-Leads, Body 18.3x18.2x9.2 mm)
pins: 1, 2

## 7443556260
designator L?
SMD Flat Wire High Current Inductor WE-HCI, L=2.60 µH; PartNumber: 7443556260; Inductance: 2.60 µH; DatasheetVersion: ver 3, Nov-2009; PackageReference: WE-HCI-1890; PackageDescription: Inductor, 2-Leads, Body 18.3 x 18.2 mm; ComponentLink1Description: Manufacturer URL; ComponentLink1URL: http://www.we-online.com; ComponentLink2Description: Datasheet; ComponentLink2URL: http://www.we-online.de/katalog/media/pdf/7443556260.pdf
footprint WE-HCI-1890 (Inductor, 2-Leads, Body 18.3x18.2x9.2 mm)
pins: 1, 2

## 7443556350
designator L?
SMD Flat Wire High Current Inductor WE-HCI, L=3.50 µH; PartNumber: 7443556350; Inductance: 3.50 µH; DatasheetVersion: ver 3, Nov-2009; PackageReference: WE-HCI-1890; PackageDescription: Inductor, 2-Leads, Body 18.3 x 18.2 mm; ComponentLink1Description: Manufacturer URL; ComponentLink1URL: http://www.we-online.com; ComponentLink2Description: Datasheet; ComponentLink2URL: http://www.we-online.de/katalog/media/pdf/7443556350.pdf
footprint WE-HCI-1890 (Inductor, 2-Leads, Body 18.3x18.2x9.2 mm)
pins: 1, 2

## 7443556450
designator L?
SMD Flat Wire High Current Inductor WE-HCI, L=4.50 µH; PartNumber: 7443556450; Inductance: 4.50 µH; DatasheetVersion: ver 3, Nov-2009; PackageReference: WE-HCI-1890; PackageDescription: Inductor, 2-Leads, Body 18.3 x 18.2 mm; ComponentLink1Description: Manufacturer URL; ComponentLink1URL: http://www.we-online.com; ComponentLink2Description: Datasheet; ComponentLink2URL: http://www.we-online.de/katalog/media/pdf/7443556450.pdf
footprint WE-HCI-1890 (Inductor, 2-Leads, Body 18.3x18.2x9.2 mm)
pins: 1, 2

## 7443556560
designator L?
SMD Flat Wire High Current Inductor WE-HCI, L=5.60 µH; PartNumber: 7443556560; Inductance: 5.60 µH; DatasheetVersion: ver 3, Nov-2009; PackageReference: WE-HCI-1890; PackageDescription: Inductor, 2-Leads, Body 18.3 x 18.2 mm; ComponentLink1Description: Manufacturer URL; ComponentLink1URL: http://www.we-online.com; ComponentLink2Description: Datasheet; ComponentLink2URL: http://www.we-online.de/katalog/media/pdf/7443556560.pdf
footprint WE-HCI-1890 (Inductor, 2-Leads, Body 18.3x18.2x9.2 mm)
pins: 1, 2